# Altium integrated library Motorola Sensor Temperature Sensor.IntLib: 7 symbols
Pins are listed as number, name and electrical type; pins without a type are passive.

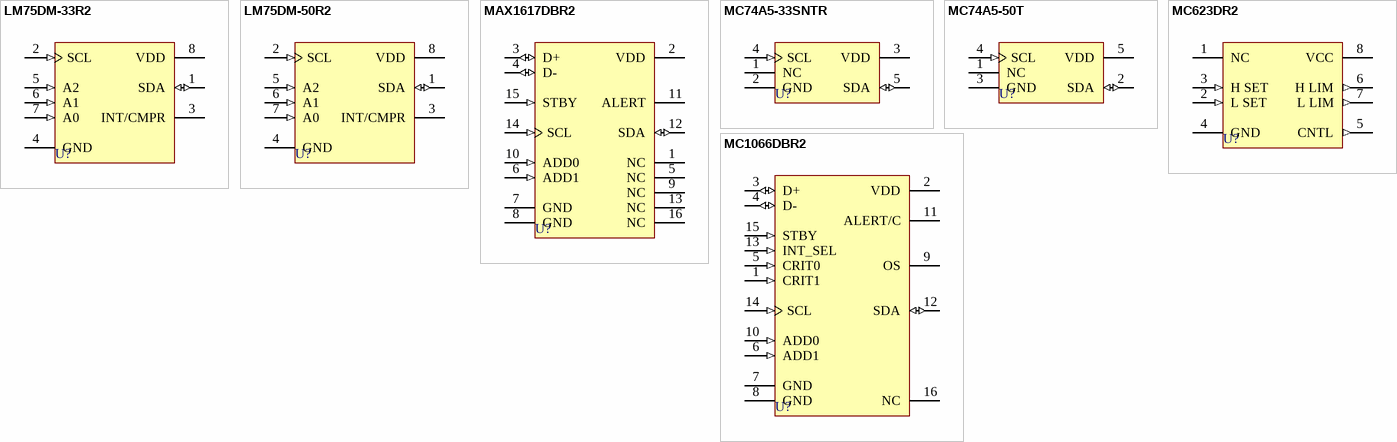
[diagram p0: symbols LM75DM-33R2 to MC1066DBR2]

## LM75DM-33R2
designator U?
2-Wire Serial Temperature Sensor and Monitor; Published: 17-Jul-2002; LatestRevisionDate: 06-Jun-2005; LatestRevisionNote: Stylized 3D Model Added.; DatasheetVersion: 1996; PackageVersion: 1997; PackageReference: 846A-02; Publisher: Altium Limited; PackageDescription: Shrink Small Outline; 8 Leads; Body Width 3 mm; Pitch 0.65 mm
footprint 846A-02 (Shrink Small Outline; 8 Leads; Body Width 3 mm; Pitch 0.65 mm)
3D model 846A-02 (Shrink Small Outline; 8 Leads; Body Width 3 mm; Pitch 0.65 mm)
pins: 1 SDA (io), 2 SCL (in), 3 INT/CMPR (oc), 4 GND (power), 5 A2 (in), 6 A1 (in), 7 A0 (in), 8 VDD (power)

## LM75DM-50R2
designator U?
2-Wire Serial Temperature Sensor and Monitor; Published: 17-Jul-2002; LatestRevisionDate: 06-Jun-2005; LatestRevisionNote: Stylized 3D Model Added.; DatasheetVersion: 1996; PackageVersion: 1997; PackageReference: 846A-02; Publisher: Altium Limited; PackageDescription: Shrink Small Outline; 8 Leads; Body Width 3 mm; Pitch 0.65 mm
footprint 846A-02 (Shrink Small Outline; 8 Leads; Body Width 3 mm; Pitch 0.65 mm)
3D model 846A-02 (Shrink Small Outline; 8 Leads; Body Width 3 mm; Pitch 0.65 mm)
pins: 1 SDA (io), 2 SCL (in), 3 INT/CMPR (oc), 4 GND (power), 5 A2 (in), 6 A1 (in), 7 A0 (in), 8 VDD (power)

## MAX1617DBR2
designator U?
SMBus Temperature Sensor with Internal and External Diode Input; Published: 17-Jul-2002; LatestRevisionDate: 06-Jun-2005; LatestRevisionNote: Stylized 3D Model Added.; DatasheetVersion: Feb-2000; PackageVersion: Feb-2000; PackageReference: QSOP16; Publisher: Altium Limited; PackageDescription: SSOP; 16 Leads; Body Width 3.9 mm; Pitch 0.635 mm
footprint QSOP16 (SSOP; 16 Leads; Body Width 3.9 mm; Pitch 0.635 mm)
3D model QSOP16 (SSOP; 16 Leads; Body Width 3.9 mm; Pitch 0.635 mm)
pins: 1 NC, 2 VDD (power), 3 D+ (io), 4 D- (io), 5 NC, 6 ADD1 (in), 7 GND (power), 8 GND (power), 9 NC, 10 ADD0 (in), 11 ALERT (oc), 12 SDA (io), 13 NC, 14 SCL (in), 15 STBY (in), 16 NC

## MC74A5-33SNTR
designator U?
Serial Digital Temperature Sensor; Published: 17-Jul-2002; DatasheetVersion: Feb-2000; PackageVersion: Feb-2000; PackageReference: SOT-23-5; Publisher: Altium Limited; PackageDescription: SOT-23/SC-74A; 5 Leads; Body 3.1 x 3.1 mm, inc. leads (LxW max)
footprint SOT-23-5 (SOT-23/SC-74A; 5 Leads; Body 3.1 x 3.1 mm, inc. leads (LxW max))
pins: 1 NC, 2 GND (power), 3 VDD (power), 4 SCL (in), 5 SDA (io)

## MC74A5-50T
designator U?
Serial Digital Temperature Sensor; Published: 17-Jul-2002; DatasheetVersion: Feb-2000; PackageVersion: Feb-2000; PackageReference: TO-220-05; Publisher: Altium Limited; PackageDescription: TO, Thru-Hole, Vertical, Heatsink Mounted; 5 In-Line Leads; Pitch 1.70 mm
footprint TO-220-05 (TO, Thru-Hole, Vertical, Heatsink Mounted; 5 In-Line Leads; Pitch 1.70 mm)
pins: 1 NC, 2 SDA (io), 3 GND (power), 4 SCL (in), 5 VDD (power)

## MC623DR2
designator U?
3V, Dual Trip Point Temperature Sensor; Published: 17-Jul-2002; LatestRevisionDate: 13-Apr-2006; LatestRevisionNote: IPC-7351 Footprint Added.; DatasheetVersion: Feb-2000; PackageVersion: Sep-1999; PackageReference: 751-06; Publisher: Altium Limited; PackageDescription: 8-Pin Small Outline Integrated Circuit 1.27 mm Pitch; Code_JEDEC: MS-012-AA; Code_IPC: SOIC127P600-8
footprint 751-06_N (SOIC, 8-Leads, Body 4.9x3.9mm, Pitch 1.27mm, IPC Medium Density)
footprint 751-06_L (SOIC, 8-Leads, Body 4.9x3.9mm, Pitch 1.27mm, IPC High Density)
footprint 751-06_M (SOIC, 8-Leads, Body 4.9x3.9mm, Pitch 1.27mm, IPC Low Density)
3D model 751-06 (8-Pin Small Outline Integrated Circuit 1.27 mm Pitch)
pins: 1 NC, 2 L SET (in), 3 H SET (in), 4 GND (power), 5 CNTL (out), 6 H LIM (out), 7 L LIM (out), 8 VCC (power)

## MC1066DBR2
designator U?
ACPI-Compliant SMBus Temperature Sensor with Internal and External Diode Input; Published: 17-Jul-2002; LatestRevisionDate: 06-Jun-2005; LatestRevisionNote: Stylized 3D Model Added.; DatasheetVersion: Feb-2000; PackageVersion: Feb-2000; PackageReference: QSOP16; Publisher: Altium Limited; PackageDescription: SSOP; 16 Leads; Body Width 3.9 mm; Pitch 0.635 mm
footprint QSOP16 (SSOP; 16 Leads; Body Width 3.9 mm; Pitch 0.635 mm)
3D model QSOP16 (SSOP; 16 Leads; Body Width 3.9 mm; Pitch 0.635 mm)
pins: 1 CRIT1 (in), 2 VDD (power), 3 D+ (io), 4 D- (io), 5 CRIT0 (in), 6 ADD1 (in), 7 GND (power), 8 GND (power), 9 OS (oc), 10 ADD0 (in), 11 ALERT/C (oc), 12 SDA (io), 13 INT_SEL (in), 14 SCL (in), 15 STBY (in), 16 NC